# Altium footprint library SC_DCDC_OKI-78SR.PcbLib: 1 footprints
Each footprint in its own frame and in the unit in brackets; x right, y up, seen from the top. Pads: shape width x height; smd on the part's side, far side on the other; paste and mask are expansions set on the pad; w line width, h text height; cw(c..) or ccw(c..) is an arc to the next point about the centre after c.
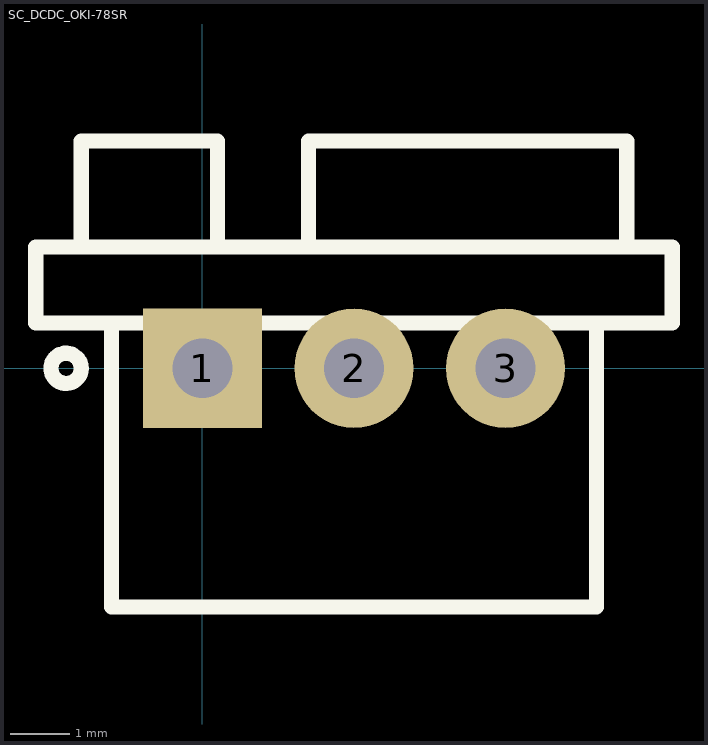
[diagram p0: the footprint, top view; thin cyan lines are the x and y axes]

## SC_DCDC_OKI-78SR [mm]
pads (3):
  rect 2x2 hole 1: 1(0,0)
  round 2 hole 1: 2(2.54,0) 3(5.08,0)
Top Overlay:
  circle w0.254: c-2.286,0 r0.254
  lines w0.254: -1.524,0.762 -1.524,-4 6.604,-4 6.604,0.762 ; 0.254,2.032 0.254,3.81 -2.032,3.81 ; 1.778,2.032 1.778,3.81 7.112,3.81 7.112,2.032 ; -2.032,3.81 -2.032,2.032 -2.032,3.81 ; -2.794,0.762 7.874,0.762 7.874,2.032 -2.794,2.032 -2.794,0.762
3D body: height 16.5, standoff 0, extent -2.787,-4 7.867,3.927